# Altium footprint library MECH_SCREW_M3X8_COUNTERSUNK_POZIDRIV.PcbLib: 1 footprints
Each footprint in its own frame and in the unit in brackets; x right, y up, seen from the top. Pads: shape width x height; smd on the part's side, far side on the other; paste and mask are expansions set on the pad; w line width, h text height; cw(c..) or ccw(c..) is an arc to the next point about the centre after c.
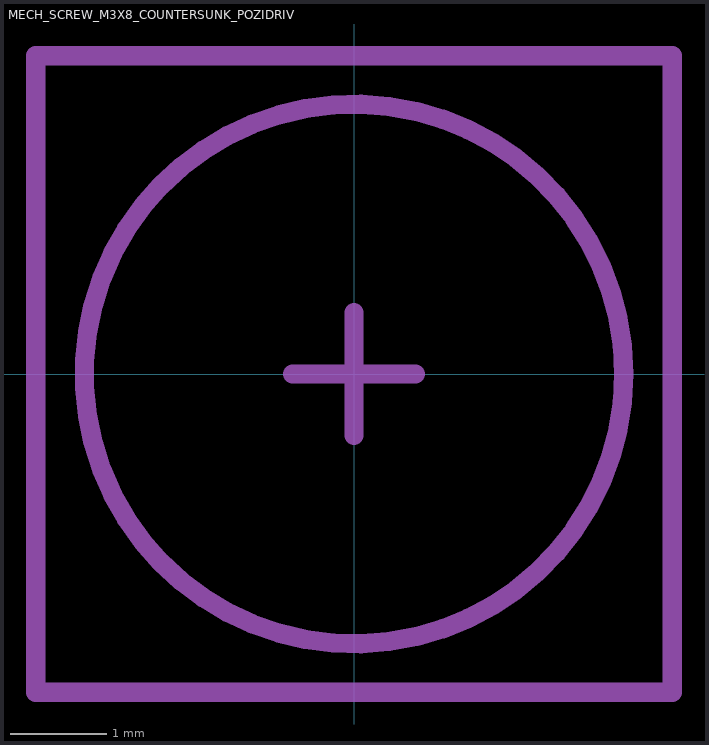
[diagram p0: the footprint, top view; thin cyan lines are the x and y axes]

## MECH_SCREW_M3X8_COUNTERSUNK_POZIDRIV [mm]
Mechanical 13:
  circle w0.2: c0,0 r2.8
Mechanical 15:
  lines w0.2: -0.635,0 0.635,0 ; 0,-0.635 0,0.635 ; -3.302,-3.302 -3.302,3.302 3.302,3.302 3.302,-3.302 -3.302,-3.302
Mechanical 17:
  text ".Designator" at -2.54,-0.381 h1.02
3D body "User Library-DIN EN ISO 7046-1.step": height 3.05, standoff -4.95, extent -2.75,-2.746 2.75,2.746